# Altium integrated library Linear Technology Power Management LDO Linear Regulators.IntLib: 2339 symbols (part 32 of 131)
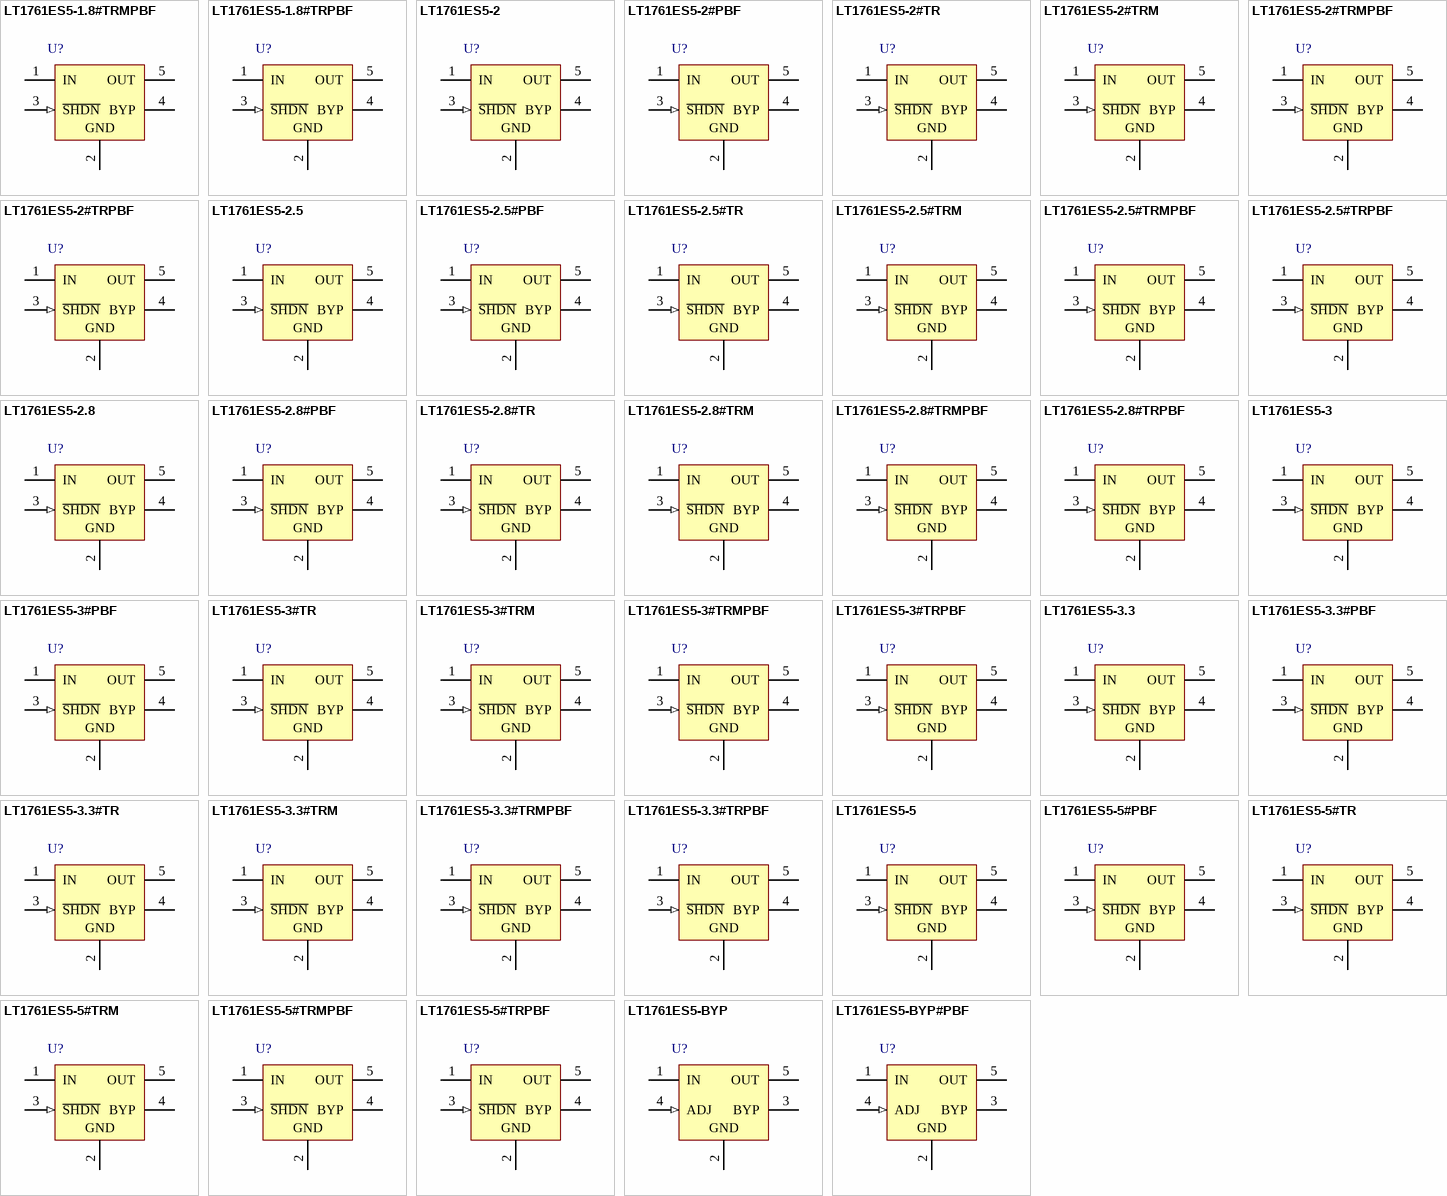
[diagram p100: symbols LT1761ES5-1.8#TRMPBF to LT1761ES5-BYP#PBF]

## LT1761ES5-BYP
designator U?
100 mA, Low Noise, LDO Micropower Regulator, 1.8 to 20 V Vin, Adjustable Vout, 5-pin SOT23 (S5-5), -40 to 125 degC; Manufacturer: Linear Technology; PartNumber: LT1761ES5-BYP; Discrete Pass Element: no; Dropout Voltage(V): 0.3; Iout(mA): 100; Isupply(mA): 0.02; Noise(uV): 20; Number of Outputs: 1; Output Voltage: Adj; PSRR(dB): 65; Vin Min(V): 1.8; Vout Min(V): 1.22; DatasheetVersion: Rev. F; PackageVersion: Jun-10; PackageReference: S5-5; PackageDescription: 5-Pin Plastic TSOT-23, Body 1.63 x 2.90 mm, Pitch 0.95 mm; RoHS: FALSE; Shutdown Current(uA): 1; Vin Max(V): 20; Vout Max(V): 20; Mounting Technology: Surface Mount; Code_JEDEC: MO-193; ComponentLink1Description: Manufacturer URL; ComponentLink1URL: http://www.linear.com/; ComponentLink2Description: Datasheet; ComponentLink2URL: http://cds.linear.com/docs/en/datasheet/1761sff.pdf; ComponentLink3Description: Package Specification; ComponentLink3URL: http://cds.linear.com/docs/en/packaging/SOT_5_05-08-1635.pdf
footprint LT-S5-5-TSOT-23_N (SOT23, 5-Leads, Body 2.90x1.63mm, Pitch 0.95mm, IPC Medium Density)
footprint LT-S5-5-TSOT-23_L (SOT23, 5-Leads, Body 2.90x1.63mm, Pitch 0.95mm, IPC High Density)
footprint LT-S5-5-TSOT-23_M (SOT23, 5-Leads, Body 2.90x1.63mm, Pitch 0.95mm, IPC Low Density)
pins: 1 IN (power) "Input. Power is supplied to the device through the IN pin. A bypass capacitor is required on this pin if the device is more than six inches away from the main input filter capacitor. In general, the output impedance of a (See Datasheet)", 2 GND (power) "Ground.", 3 BYP, 4 ADJ (in), 5 OUT (power)

## LT1761ES5-BYP#PBF
designator U?
100 mA, Low Noise, LDO Micropower Regulator, 1.8 to 20 V Vin, Adjustable Vout, 5-pin SOT23 (S5-5), -40 to 125 degC, Pb-Free; Manufacturer: Linear Technology; PartNumber: LT1761ES5-BYP#PBF; Discrete Pass Element: no; Dropout Voltage(V): 0.3; Iout(mA): 100; Isupply(mA): 0.02; Noise(uV): 20; Number of Outputs: 1; Output Voltage: Adj; PSRR(dB): 65; Vin Min(V): 1.8; Vout Min(V): 1.22; DatasheetVersion: Rev. F; PackageVersion: Jun-10; PackageReference: S5-5; PackageDescription: 5-Pin Plastic TSOT-23, Body 1.63 x 2.90 mm, Pitch 0.95 mm; Supplier 1: Farnell; Supplier Part Number 1: 1531488; Supplier 2: Newark; Supplier Part Number 2: 61M3352; RoHS: TRUE; Shutdown Current(uA): 1; Vin Max(V): 20; Vout Max(V): 20; Mounting Technology: Surface Mount; Code_JEDEC: MO-193; ComponentLink1Description: Manufacturer URL; ComponentLink1URL: http://www.linear.com/; ComponentLink2Description: Datasheet; ComponentLink2URL: http://cds.linear.com/docs/en/datasheet/1761sff.pdf; ComponentLink3Description: Package Specification; ComponentLink3URL: http://cds.linear.com/docs/en/packaging/SOT_5_05-08-1635.pdf
footprint LT-S5-5-TSOT-23_N (SOT23, 5-Leads, Body 2.90x1.63mm, Pitch 0.95mm, IPC Medium Density)
footprint LT-S5-5-TSOT-23_L (SOT23, 5-Leads, Body 2.90x1.63mm, Pitch 0.95mm, IPC High Density)
footprint LT-S5-5-TSOT-23_M (SOT23, 5-Leads, Body 2.90x1.63mm, Pitch 0.95mm, IPC Low Density)
pins: 1 IN (power) "Input. Power is supplied to the device through the IN pin. A bypass capacitor is required on this pin if the device is more than six inches away from the main input filter capacitor. In general, the output impedance of a (See Datasheet)", 2 GND (power) "Ground.", 3 BYP, 4 ADJ (in), 5 OUT (power)

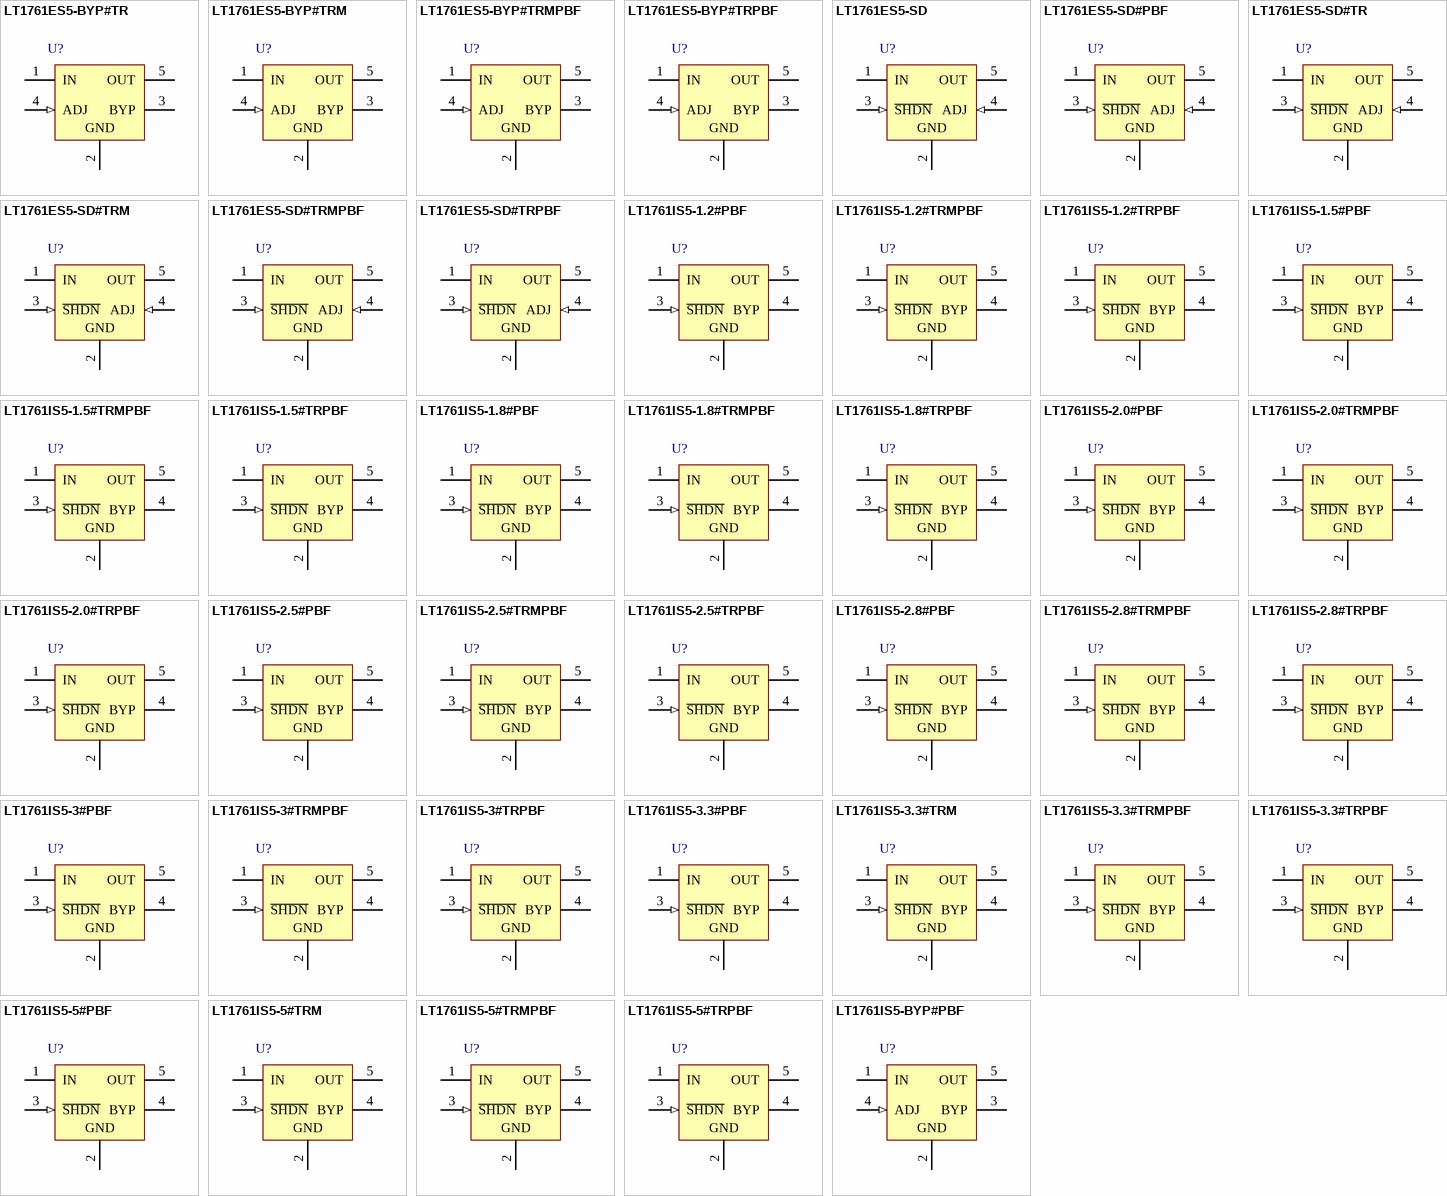
[diagram p22: symbols LT1761ES5-BYP#TR to LT1761IS5-BYP#PBF]

## LT1761ES5-BYP#TR
designator U?
100 mA, Low Noise, LDO Micropower Regulator, 1.8 to 20 V Vin, Adjustable Vout, 5-pin SOT23 (S5-5), -40 to 125 degC, Tape and Reel; Manufacturer: Linear Technology; PartNumber: LT1761ES5-BYP#TR; Discrete Pass Element: no; Dropout Voltage(V): 0.3; Iout(mA): 100; Isupply(mA): 0.02; Noise(uV): 20; Number of Outputs: 1; Output Voltage: Adj; PSRR(dB): 65; Vin Min(V): 1.8; Vout Min(V): 1.22; DatasheetVersion: Rev. F; PackageVersion: Jun-10; PackageReference: S5-5; PackageDescription: 5-Pin Plastic TSOT-23, Body 1.63 x 2.90 mm, Pitch 0.95 mm; Supplier 1: Digi-Key; Supplier Part Number 1: LT1761ES5-BYP#TR-ND; Supplier 2: Newark; Supplier Part Number 2: 57M5950; Packing: Tape and Reel; RoHS: FALSE; Shutdown Current(uA): 1; Vin Max(V): 20; Vout Max(V): 20; Mounting Technology: Surface Mount; Code_JEDEC: MO-193; ComponentLink1Description: Manufacturer URL; ComponentLink1URL: http://www.linear.com/; ComponentLink2Description: Datasheet; ComponentLink2URL: http://cds.linear.com/docs/en/datasheet/1761sff.pdf; ComponentLink3Description: Package Specification; ComponentLink3URL: http://cds.linear.com/docs/en/packaging/SOT_5_05-08-1635.pdf
footprint LT-S5-5-TSOT-23_N (SOT23, 5-Leads, Body 2.90x1.63mm, Pitch 0.95mm, IPC Medium Density)
footprint LT-S5-5-TSOT-23_L (SOT23, 5-Leads, Body 2.90x1.63mm, Pitch 0.95mm, IPC High Density)
footprint LT-S5-5-TSOT-23_M (SOT23, 5-Leads, Body 2.90x1.63mm, Pitch 0.95mm, IPC Low Density)
pins: 1 IN (power) "Input. Power is supplied to the device through the IN pin. A bypass capacitor is required on this pin if the device is more than six inches away from the main input filter capacitor. In general, the output impedance of a (See Datasheet)", 2 GND (power) "Ground.", 3 BYP, 4 ADJ (in), 5 OUT (power)

## LT1761ES5-BYP#TRM
designator U?
100 mA, Low Noise, LDO Micropower Regulator, 1.8 to 20 V Vin, Adjustable Vout, 5-pin SOT23 (S5-5), -40 to 125 degC, Mini Tape and Reel; Manufacturer: Linear Technology; PartNumber: LT1761ES5-BYP#TRM; Discrete Pass Element: no; Dropout Voltage(V): 0.3; Iout(mA): 100; Isupply(mA): 0.02; Noise(uV): 20; Number of Outputs: 1; Output Voltage: Adj; PSRR(dB): 65; Vin Min(V): 1.8; Vout Min(V): 1.22; DatasheetVersion: Rev. F; PackageVersion: Jun-10; PackageReference: S5-5; PackageDescription: 5-Pin Plastic TSOT-23, Body 1.63 x 2.90 mm, Pitch 0.95 mm; Supplier 1: Digi-Key; Supplier Part Number 1: LT1761ES5-BYP#TRMTR-ND; Supplier 2: Digi-Key; Supplier Part Number 2: LT1761ES5-BYP#TRMCT-ND; Supplier 3: Digi-Key; Supplier Part Number 3: LT1761ES5-BYP#TRMDKR-ND; Supplier 4: Newark; Supplier Part Number 4: 57M5951; Packing: Mini Tape and Reel; RoHS: FALSE; Shutdown Current(uA): 1; Vin Max(V): 20; Vout Max(V): 20; Mounting Technology: Surface Mount; Code_JEDEC: MO-193; ComponentLink1Description: Manufacturer URL; ComponentLink1URL: http://www.linear.com/; ComponentLink2Description: Datasheet; ComponentLink2URL: http://cds.linear.com/docs/en/datasheet/1761sff.pdf; ComponentLink3Description: Package Specification; ComponentLink3URL: http://cds.linear.com/docs/en/packaging/SOT_5_05-08-1635.pdf
footprint LT-S5-5-TSOT-23_N (SOT23, 5-Leads, Body 2.90x1.63mm, Pitch 0.95mm, IPC Medium Density)
footprint LT-S5-5-TSOT-23_L (SOT23, 5-Leads, Body 2.90x1.63mm, Pitch 0.95mm, IPC High Density)
footprint LT-S5-5-TSOT-23_M (SOT23, 5-Leads, Body 2.90x1.63mm, Pitch 0.95mm, IPC Low Density)
pins: 1 IN (power) "Input. Power is supplied to the device through the IN pin. A bypass capacitor is required on this pin if the device is more than six inches away from the main input filter capacitor. In general, the output impedance of a (See Datasheet)", 2 GND (power) "Ground.", 3 BYP, 4 ADJ (in), 5 OUT (power)

## LT1761ES5-BYP#TRMPBF
designator U?
100 mA, Low Noise, LDO Micropower Regulator, 1.8 to 20 V Vin, Adjustable Vout, 5-pin SOT23 (S5-5), -40 to 125 degC, Pb-Free, Mini Tape and Reel; Manufacturer: Linear Technology; PartNumber: LT1761ES5-BYP#TRMPBF; Discrete Pass Element: no; Dropout Voltage(V): 0.3; Iout(mA): 100; Isupply(mA): 0.02; Noise(uV): 20; Number of Outputs: 1; Output Voltage: Adj; PSRR(dB): 65; Vin Min(V): 1.8; Vout Min(V): 1.22; DatasheetVersion: Rev. F; PackageVersion: Jun-10; PackageReference: S5-5; PackageDescription: 5-Pin Plastic TSOT-23, Body 1.63 x 2.90 mm, Pitch 0.95 mm; Supplier 1: Digi-Key; Supplier Part Number 1: LT1761ES5-BYP#TRMPBFTR-ND; Supplier 2: Digi-Key; Supplier Part Number 2: LT1761ES5-BYP#TRMPBFCT-ND; Supplier 3: Digi-Key; Supplier Part Number 3: LT1761ES5-BYP#TRMPBFDKR-ND; Supplier 4: Farnell; Supplier Part Number 4: 1663782; Supplier 5: Farnell; Supplier Part Number 5: 1663782RL; Supplier 6: Newark; Supplier Part Number 6: 59M8293; Supplier 7: Newark; Supplier Part Number 7: 57M5952; Packing: Mini Tape and Reel; RoHS: TRUE; Shutdown Current(uA): 1; Vin Max(V): 20; Vout Max(V): 20; Mounting Technology: Surface Mount; Code_JEDEC: MO-193; ComponentLink1Description: Manufacturer URL; ComponentLink1URL: http://www.linear.com/; ComponentLink2Description: Datasheet; ComponentLink2URL: http://cds.linear.com/docs/en/datasheet/1761sff.pdf; ComponentLink3Description: Package Specification; ComponentLink3URL: http://cds.linear.com/docs/en/packaging/SOT_5_05-08-1635.pdf
footprint LT-S5-5-TSOT-23_N (SOT23, 5-Leads, Body 2.90x1.63mm, Pitch 0.95mm, IPC Medium Density)
footprint LT-S5-5-TSOT-23_L (SOT23, 5-Leads, Body 2.90x1.63mm, Pitch 0.95mm, IPC High Density)
footprint LT-S5-5-TSOT-23_M (SOT23, 5-Leads, Body 2.90x1.63mm, Pitch 0.95mm, IPC Low Density)
pins: 1 IN (power) "Input. Power is supplied to the device through the IN pin. A bypass capacitor is required on this pin if the device is more than six inches away from the main input filter capacitor. In general, the output impedance of a (See Datasheet)", 2 GND (power) "Ground.", 3 BYP, 4 ADJ (in), 5 OUT (power)

## LT1761ES5-BYP#TRPBF
designator U?
100 mA, Low Noise, LDO Micropower Regulator, 1.8 to 20 V Vin, Adjustable Vout, 5-pin SOT23 (S5-5), -40 to 125 degC, Pb-Free, Tape and Reel; Manufacturer: Linear Technology; PartNumber: LT1761ES5-BYP#TRPBF; Discrete Pass Element: no; Dropout Voltage(V): 0.3; Iout(mA): 100; Isupply(mA): 0.02; Noise(uV): 20; Number of Outputs: 1; Output Voltage: Adj; PSRR(dB): 65; Vin Min(V): 1.8; Vout Min(V): 1.22; DatasheetVersion: Rev. F; PackageVersion: Jun-10; PackageReference: S5-5; PackageDescription: 5-Pin Plastic TSOT-23, Body 1.63 x 2.90 mm, Pitch 0.95 mm; Supplier 1: Digi-Key; Supplier Part Number 1: LT1761ES5-BYP#TRPBF-ND; Supplier 2: Newark; Supplier Part Number 2: 57M5953; Packing: Tape and Reel; RoHS: TRUE; Shutdown Current(uA): 1; Vin Max(V): 20; Vout Max(V): 20; Mounting Technology: Surface Mount; Code_JEDEC: MO-193; ComponentLink1Description: Manufacturer URL; ComponentLink1URL: http://www.linear.com/; ComponentLink2Description: Datasheet; ComponentLink2URL: http://cds.linear.com/docs/en/datasheet/1761sff.pdf; ComponentLink3Description: Package Specification; ComponentLink3URL: http://cds.linear.com/docs/en/packaging/SOT_5_05-08-1635.pdf
footprint LT-S5-5-TSOT-23_N (SOT23, 5-Leads, Body 2.90x1.63mm, Pitch 0.95mm, IPC Medium Density)
footprint LT-S5-5-TSOT-23_L (SOT23, 5-Leads, Body 2.90x1.63mm, Pitch 0.95mm, IPC High Density)
footprint LT-S5-5-TSOT-23_M (SOT23, 5-Leads, Body 2.90x1.63mm, Pitch 0.95mm, IPC Low Density)
pins: 1 IN (power) "Input. Power is supplied to the device through the IN pin. A bypass capacitor is required on this pin if the device is more than six inches away from the main input filter capacitor. In general, the output impedance of a (See Datasheet)", 2 GND (power) "Ground.", 3 BYP, 4 ADJ (in), 5 OUT (power)

## LT1761ES5-SD
designator U?
100 mA, Low Noise, LDO Micropower Regulator, 1.8 to 20 V Vin, Adjustable Vout, 5-pin SOT23 (S5-5), -40 to 125 degC; Manufacturer: Linear Technology; PartNumber: LT1761ES5-SD; Discrete Pass Element: no; Dropout Voltage(V): 0.3; Iout(mA): 100; Isupply(mA): 0.02; Noise(uV): 20; Number of Outputs: 1; Output Voltage: Adj; PSRR(dB): 65; Vin Min(V): 1.8; Vout Min(V): 1.22; DatasheetVersion: Rev. F; PackageVersion: Jun-10; PackageReference: S5-5; PackageDescription: 5-Pin Plastic TSOT-23, Body 1.63 x 2.90 mm, Pitch 0.95 mm; RoHS: FALSE; Shutdown Current(uA): 1; Vin Max(V): 20; Vout Max(V): 20; Mounting Technology: Surface Mount; Code_JEDEC: MO-193; ComponentLink1Description: Manufacturer URL; ComponentLink1URL: http://www.linear.com/; ComponentLink2Description: Datasheet; ComponentLink2URL: http://cds.linear.com/docs/en/datasheet/1761sff.pdf; ComponentLink3Description: Package Specification; ComponentLink3URL: http://cds.linear.com/docs/en/packaging/SOT_5_05-08-1635.pdf
footprint LT-S5-5-TSOT-23_N (SOT23, 5-Leads, Body 2.90x1.63mm, Pitch 0.95mm, IPC Medium Density)
footprint LT-S5-5-TSOT-23_L (SOT23, 5-Leads, Body 2.90x1.63mm, Pitch 0.95mm, IPC High Density)
footprint LT-S5-5-TSOT-23_M (SOT23, 5-Leads, Body 2.90x1.63mm, Pitch 0.95mm, IPC Low Density)
pins: 1 IN (power), 2 GND (power), 3 ~{SHDN} (in), 4 ADJ (in), 5 OUT (power)

## LT1761ES5-SD#PBF
designator U?
100 mA, Low Noise, LDO Micropower Regulator, 1.8 to 20 V Vin, Adjustable Vout, 5-pin SOT23 (S5-5), -40 to 125 degC, Pb-Free; Manufacturer: Linear Technology; PartNumber: LT1761ES5-SD#PBF; Discrete Pass Element: no; Dropout Voltage(V): 0.3; Iout(mA): 100; Isupply(mA): 0.02; Noise(uV): 20; Number of Outputs: 1; Output Voltage: Adj; PSRR(dB): 65; Vin Min(V): 1.8; Vout Min(V): 1.22; DatasheetVersion: Rev. F; PackageVersion: Jun-10; PackageReference: S5-5; PackageDescription: 5-Pin Plastic TSOT-23, Body 1.63 x 2.90 mm, Pitch 0.95 mm; Supplier 1: Farnell; Supplier Part Number 1: 1531489; Supplier 2: Newark; Supplier Part Number 2: 61M3353; RoHS: TRUE; Shutdown Current(uA): 1; Vin Max(V): 20; Vout Max(V): 20; Mounting Technology: Surface Mount; Code_JEDEC: MO-193; ComponentLink1Description: Manufacturer URL; ComponentLink1URL: http://www.linear.com/; ComponentLink2Description: Datasheet; ComponentLink2URL: http://cds.linear.com/docs/en/datasheet/1761sff.pdf; ComponentLink3Description: Package Specification; ComponentLink3URL: http://cds.linear.com/docs/en/packaging/SOT_5_05-08-1635.pdf
footprint LT-S5-5-TSOT-23_N (SOT23, 5-Leads, Body 2.90x1.63mm, Pitch 0.95mm, IPC Medium Density)
footprint LT-S5-5-TSOT-23_L (SOT23, 5-Leads, Body 2.90x1.63mm, Pitch 0.95mm, IPC High Density)
footprint LT-S5-5-TSOT-23_M (SOT23, 5-Leads, Body 2.90x1.63mm, Pitch 0.95mm, IPC Low Density)
pins: 1 IN (power), 2 GND (power), 3 ~{SHDN} (in), 4 ADJ (in), 5 OUT (power)

## LT1761ES5-SD#TR
designator U?
100 mA, Low Noise, LDO Micropower Regulator, 1.8 to 20 V Vin, Adjustable Vout, 5-pin SOT23 (S5-5), -40 to 125 degC, Tape and Reel; Manufacturer: Linear Technology; PartNumber: LT1761ES5-SD#TR; Discrete Pass Element: no; Dropout Voltage(V): 0.3; Iout(mA): 100; Isupply(mA): 0.02; Noise(uV): 20; Number of Outputs: 1; Output Voltage: Adj; PSRR(dB): 65; Vin Min(V): 1.8; Vout Min(V): 1.22; DatasheetVersion: Rev. F; PackageVersion: Jun-10; PackageReference: S5-5; PackageDescription: 5-Pin Plastic TSOT-23, Body 1.63 x 2.90 mm, Pitch 0.95 mm; Supplier 1: Digi-Key; Supplier Part Number 1: LT1761ES5-SD#TR-ND; Packing: Tape and Reel; RoHS: FALSE; Shutdown Current(uA): 1; Vin Max(V): 20; Vout Max(V): 20; Mounting Technology: Surface Mount; Code_JEDEC: MO-193; ComponentLink1Description: Manufacturer URL; ComponentLink1URL: http://www.linear.com/; ComponentLink2Description: Datasheet; ComponentLink2URL: http://cds.linear.com/docs/en/datasheet/1761sff.pdf; ComponentLink3Description: Package Specification; ComponentLink3URL: http://cds.linear.com/docs/en/packaging/SOT_5_05-08-1635.pdf
footprint LT-S5-5-TSOT-23_N (SOT23, 5-Leads, Body 2.90x1.63mm, Pitch 0.95mm, IPC Medium Density)
footprint LT-S5-5-TSOT-23_L (SOT23, 5-Leads, Body 2.90x1.63mm, Pitch 0.95mm, IPC High Density)
footprint LT-S5-5-TSOT-23_M (SOT23, 5-Leads, Body 2.90x1.63mm, Pitch 0.95mm, IPC Low Density)
pins: 1 IN (power), 2 GND (power), 3 ~{SHDN} (in), 4 ADJ (in), 5 OUT (power)

## LT1761ES5-SD#TRM
designator U?
100 mA, Low Noise, LDO Micropower Regulator, 1.8 to 20 V Vin, Adjustable Vout, 5-pin SOT23 (S5-5), -40 to 125 degC, Mini Tape and Reel; Manufacturer: Linear Technology; PartNumber: LT1761ES5-SD#TRM; Discrete Pass Element: no; Dropout Voltage(V): 0.3; Iout(mA): 100; Isupply(mA): 0.02; Noise(uV): 20; Number of Outputs: 1; Output Voltage: Adj; PSRR(dB): 65; Vin Min(V): 1.8; Vout Min(V): 1.22; DatasheetVersion: Rev. F; PackageVersion: Jun-10; PackageReference: S5-5; PackageDescription: 5-Pin Plastic TSOT-23, Body 1.63 x 2.90 mm, Pitch 0.95 mm; Supplier 1: Digi-Key; Supplier Part Number 1: LT1761ES5-SD#TRMTR-ND; Supplier 2: Digi-Key; Supplier Part Number 2: LT1761ES5-SD#TRMCT-ND; Supplier 3: Digi-Key; Supplier Part Number 3: LT1761ES5-SD#TRMDKR-ND; Supplier 4: Newark; Supplier Part Number 4: 57M5955; Packing: Mini Tape and Reel; RoHS: FALSE; Shutdown Current(uA): 1; Vin Max(V): 20; Vout Max(V): 20; Mounting Technology: Surface Mount; Code_JEDEC: MO-193; ComponentLink1Description: Manufacturer URL; ComponentLink1URL: http://www.linear.com/; ComponentLink2Description: Datasheet; ComponentLink2URL: http://cds.linear.com/docs/en/datasheet/1761sff.pdf; ComponentLink3Description: Package Specification; ComponentLink3URL: http://cds.linear.com/docs/en/packaging/SOT_5_05-08-1635.pdf
footprint LT-S5-5-TSOT-23_N (SOT23, 5-Leads, Body 2.90x1.63mm, Pitch 0.95mm, IPC Medium Density)
footprint LT-S5-5-TSOT-23_L (SOT23, 5-Leads, Body 2.90x1.63mm, Pitch 0.95mm, IPC High Density)
footprint LT-S5-5-TSOT-23_M (SOT23, 5-Leads, Body 2.90x1.63mm, Pitch 0.95mm, IPC Low Density)
pins: 1 IN (power), 2 GND (power), 3 ~{SHDN} (in), 4 ADJ (in), 5 OUT (power)

## LT1761ES5-SD#TRMPBF
designator U?
100 mA, Low Noise, LDO Micropower Regulator, 1.8 to 20 V Vin, Adjustable Vout, 5-pin SOT23 (S5-5), -40 to 125 degC, Pb-Free, Mini Tape and Reel; Manufacturer: Linear Technology; PartNumber: LT1761ES5-SD#TRMPBF; Discrete Pass Element: no; Dropout Voltage(V): 0.3; Iout(mA): 100; Isupply(mA): 0.02; Noise(uV): 20; Number of Outputs: 1; Output Voltage: Adj; PSRR(dB): 65; Vin Min(V): 1.8; Vout Min(V): 1.22; DatasheetVersion: Rev. F; PackageVersion: Jun-10; PackageReference: S5-5; PackageDescription: 5-Pin Plastic TSOT-23, Body 1.63 x 2.90 mm, Pitch 0.95 mm; Supplier 1: Digi-Key; Supplier Part Number 1: LT1761ES5-SD#TRMPBFTR-ND; Supplier 2: Digi-Key; Supplier Part Number 2: LT1761ES5-SD#TRMPBFCT-ND; Supplier 3: Digi-Key; Supplier Part Number 3: LT1761ES5-SD#TRMPBFDKR-ND; Supplier 4: Farnell; Supplier Part Number 4: 1663783RL; Supplier 5: Farnell; Supplier Part Number 5: 1663783; Supplier 6: Newark; Supplier Part Number 6: 57M5956; Packing: Mini Tape and Reel; RoHS: TRUE; Shutdown Current(uA): 1; Vin Max(V): 20; Vout Max(V): 20; Mounting Technology: Surface Mount; Code_JEDEC: MO-193; ComponentLink1Description: Manufacturer URL; ComponentLink1URL: http://www.linear.com/; ComponentLink2Description: Datasheet; ComponentLink2URL: http://cds.linear.com/docs/en/datasheet/1761sff.pdf; ComponentLink3Description: Package Specification; ComponentLink3URL: http://cds.linear.com/docs/en/packaging/SOT_5_05-08-1635.pdf
footprint LT-S5-5-TSOT-23_N (SOT23, 5-Leads, Body 2.90x1.63mm, Pitch 0.95mm, IPC Medium Density)
footprint LT-S5-5-TSOT-23_L (SOT23, 5-Leads, Body 2.90x1.63mm, Pitch 0.95mm, IPC High Density)
footprint LT-S5-5-TSOT-23_M (SOT23, 5-Leads, Body 2.90x1.63mm, Pitch 0.95mm, IPC Low Density)
pins: 1 IN (power), 2 GND (power), 3 ~{SHDN} (in), 4 ADJ (in), 5 OUT (power)

## LT1761ES5-SD#TRPBF
designator U?
100 mA, Low Noise, LDO Micropower Regulator, 1.8 to 20 V Vin, Adjustable Vout, 5-pin SOT23 (S5-5), -40 to 125 degC, Pb-Free, Tape and Reel; Manufacturer: Linear Technology; PartNumber: LT1761ES5-SD#TRPBF; Discrete Pass Element: no; Dropout Voltage(V): 0.3; Iout(mA): 100; Isupply(mA): 0.02; Noise(uV): 20; Number of Outputs: 1; Output Voltage: Adj; PSRR(dB): 65; Vin Min(V): 1.8; Vout Min(V): 1.22; DatasheetVersion: Rev. F; PackageVersion: Jun-10; PackageReference: S5-5; PackageDescription: 5-Pin Plastic TSOT-23, Body 1.63 x 2.90 mm, Pitch 0.95 mm; Supplier 1: Digi-Key; Supplier Part Number 1: LT1761ES5-SD#TRPBF-ND; Supplier 2: Newark; Supplier Part Number 2: 57M5957; Packing: Tape and Reel; RoHS: TRUE; Shutdown Current(uA): 1; Vin Max(V): 20; Vout Max(V): 20; Mounting Technology: Surface Mount; Code_JEDEC: MO-193; ComponentLink1Description: Manufacturer URL; ComponentLink1URL: http://www.linear.com/; ComponentLink2Description: Datasheet; ComponentLink2URL: http://cds.linear.com/docs/en/datasheet/1761sff.pdf; ComponentLink3Description: Package Specification; ComponentLink3URL: http://cds.linear.com/docs/en/packaging/SOT_5_05-08-1635.pdf
footprint LT-S5-5-TSOT-23_N (SOT23, 5-Leads, Body 2.90x1.63mm, Pitch 0.95mm, IPC Medium Density)
footprint LT-S5-5-TSOT-23_L (SOT23, 5-Leads, Body 2.90x1.63mm, Pitch 0.95mm, IPC High Density)
footprint LT-S5-5-TSOT-23_M (SOT23, 5-Leads, Body 2.90x1.63mm, Pitch 0.95mm, IPC Low Density)
pins: 1 IN (power), 2 GND (power), 3 ~{SHDN} (in), 4 ADJ (in), 5 OUT (power)

## LT1761IS5-1.2#PBF
designator U?
100 mA, Low Noise, LDO Micropower Regulator, 1.8 to 20 V Vin, 1.2 V Vout, 5-pin SOT23 (S5-5), -40 to 125 degC, Pb-Free; Manufacturer: Linear Technology; PartNumber: LT1761IS5-1.2#PBF; Discrete Pass Element: no; Dropout Voltage(V): 0.3; Iout(mA): 100; Isupply(mA): 0.02; Noise(uV): 20; Number of Outputs: 1; Output Voltage: 1.2 V; PSRR(dB): 65; Vin Min(V): 1.8; DatasheetVersion: Rev. F; PackageVersion: Jun-10; PackageReference: S5-5; PackageDescription: 5-Pin Plastic TSOT-23, Body 1.63 x 2.90 mm, Pitch 0.95 mm; Supplier 1: Farnell; Supplier Part Number 1: 2295206; Supplier 2: Farnell; Supplier Part Number 2: 1761233; Supplier 3: Newark; Supplier Part Number 3: 24R8521; RoHS: TRUE; Shutdown Current(uA): 1; Vin Max(V): 20; Mounting Technology: Surface Mount; Code_JEDEC: MO-193; ComponentLink1Description: Manufacturer URL; ComponentLink1URL: http://www.linear.com/; ComponentLink2Description: Datasheet; ComponentLink2URL: http://cds.linear.com/docs/en/datasheet/1761sff.pdf; ComponentLink3Description: Package Specification; ComponentLink3URL: http://cds.linear.com/docs/en/packaging/SOT_5_05-08-1635.pdf
footprint LT-S5-5-TSOT-23_N (SOT23, 5-Leads, Body 2.90x1.63mm, Pitch 0.95mm, IPC Medium Density)
footprint LT-S5-5-TSOT-23_L (SOT23, 5-Leads, Body 2.90x1.63mm, Pitch 0.95mm, IPC High Density)
footprint LT-S5-5-TSOT-23_M (SOT23, 5-Leads, Body 2.90x1.63mm, Pitch 0.95mm, IPC Low Density)
pins: 1 IN (power) "Power is supplied to the device through the IN pin.", 2 GND (power) "Ground.", 3 ~{SHDN} (in) "Shutdown.", 4 BYP "Bypass. If not used, this pin must be left unconnected.", 5 OUT (power) "The output supplies power to the load. A minimum output capacitor of 1uF is required to prevent oscillations. Larger output capacitors will be required for applications with large transient loads to limit peak voltage (See Datasheet)"

## LT1761IS5-1.2#TRMPBF
designator U?
100 mA, Low Noise, LDO Micropower Regulator, 1.8 to 20 V Vin, 1.2 V Vout, 5-pin SOT23 (S5-5), -40 to 125 degC, Pb-Free, Mini Tape and Reel; Manufacturer: Linear Technology; PartNumber: LT1761IS5-1.2#TRMPBF; Discrete Pass Element: no; Dropout Voltage(V): 0.3; Iout(mA): 100; Isupply(mA): 0.02; Noise(uV): 20; Number of Outputs: 1; Output Voltage: 1.2 V; PSRR(dB): 65; Vin Min(V): 1.8; DatasheetVersion: Rev. F; PackageVersion: Jun-10; PackageReference: S5-5; PackageDescription: 5-Pin Plastic TSOT-23, Body 1.63 x 2.90 mm, Pitch 0.95 mm; Supplier 1: Digi-Key; Supplier Part Number 1: LT1761IS5-1.2#TRMPBFTR-ND; Supplier 2: Digi-Key; Supplier Part Number 2: LT1761IS5-1.2#TRMPBFCT-ND; Supplier 3: Digi-Key; Supplier Part Number 3: LT1761IS5-1.2#TRMPBFDKR-ND; Packing: Mini Tape and Reel; RoHS: TRUE; Shutdown Current(uA): 1; Vin Max(V): 20; Mounting Technology: Surface Mount; Code_JEDEC: MO-193; ComponentLink1Description: Manufacturer URL; ComponentLink1URL: http://www.linear.com/; ComponentLink2Description: Datasheet; ComponentLink2URL: http://cds.linear.com/docs/en/datasheet/1761sff.pdf; ComponentLink3Description: Package Specification; ComponentLink3URL: http://cds.linear.com/docs/en/packaging/SOT_5_05-08-1635.pdf
footprint LT-S5-5-TSOT-23_N (SOT23, 5-Leads, Body 2.90x1.63mm, Pitch 0.95mm, IPC Medium Density)
footprint LT-S5-5-TSOT-23_L (SOT23, 5-Leads, Body 2.90x1.63mm, Pitch 0.95mm, IPC High Density)
footprint LT-S5-5-TSOT-23_M (SOT23, 5-Leads, Body 2.90x1.63mm, Pitch 0.95mm, IPC Low Density)
pins: 1 IN (power) "Power is supplied to the device through the IN pin.", 2 GND (power) "Ground.", 3 ~{SHDN} (in) "Shutdown.", 4 BYP "Bypass. If not used, this pin must be left unconnected.", 5 OUT (power) "The output supplies power to the load. A minimum output capacitor of 1uF is required to prevent oscillations. Larger output capacitors will be required for applications with large transient loads to limit peak voltage (See Datasheet)"

## LT1761IS5-1.2#TRPBF
designator U?
100 mA, Low Noise, LDO Micropower Regulator, 1.8 to 20 V Vin, 1.2 V Vout, 5-pin SOT23 (S5-5), -40 to 125 degC, Pb-Free, Tape and Reel; Manufacturer: Linear Technology; PartNumber: LT1761IS5-1.2#TRPBF; Discrete Pass Element: no; Dropout Voltage(V): 0.3; Iout(mA): 100; Isupply(mA): 0.02; Noise(uV): 20; Number of Outputs: 1; Output Voltage: 1.2 V; PSRR(dB): 65; Vin Min(V): 1.8; DatasheetVersion: Rev. F; PackageVersion: Jun-10; PackageReference: S5-5; PackageDescription: 5-Pin Plastic TSOT-23, Body 1.63 x 2.90 mm, Pitch 0.95 mm; Supplier 1: Digi-Key; Supplier Part Number 1: LT1761IS5-1.2#TRPBF-ND; Packing: Tape and Reel; RoHS: TRUE; Shutdown Current(uA): 1; Vin Max(V): 20; Mounting Technology: Surface Mount; Code_JEDEC: MO-193; ComponentLink1Description: Manufacturer URL; ComponentLink1URL: http://www.linear.com/; ComponentLink2Description: Datasheet; ComponentLink2URL: http://cds.linear.com/docs/en/datasheet/1761sff.pdf; ComponentLink3Description: Package Specification; ComponentLink3URL: http://cds.linear.com/docs/en/packaging/SOT_5_05-08-1635.pdf
footprint LT-S5-5-TSOT-23_N (SOT23, 5-Leads, Body 2.90x1.63mm, Pitch 0.95mm, IPC Medium Density)
footprint LT-S5-5-TSOT-23_L (SOT23, 5-Leads, Body 2.90x1.63mm, Pitch 0.95mm, IPC High Density)
footprint LT-S5-5-TSOT-23_M (SOT23, 5-Leads, Body 2.90x1.63mm, Pitch 0.95mm, IPC Low Density)
pins: 1 IN (power) "Power is supplied to the device through the IN pin.", 2 GND (power) "Ground.", 3 ~{SHDN} (in) "Shutdown.", 4 BYP "Bypass. If not used, this pin must be left unconnected.", 5 OUT (power) "The output supplies power to the load. A minimum output capacitor of 1uF is required to prevent oscillations. Larger output capacitors will be required for applications with large transient loads to limit peak voltage (See Datasheet)"

## LT1761IS5-1.5#PBF
designator U?
100 mA, Low Noise, LDO Micropower Regulator, 1.8 to 20 V Vin, 1.5 V Vout, 5-pin SOT23 (S5-5), -40 to 125 degC, Pb-Free; Manufacturer: Linear Technology; PartNumber: LT1761IS5-1.5#PBF; Discrete Pass Element: no; Dropout Voltage(V): 0.3; Iout(mA): 100; Isupply(mA): 0.02; Noise(uV): 20; Number of Outputs: 1; Output Voltage: 1.5 V; PSRR(dB): 65; Vin Min(V): 1.8; DatasheetVersion: Rev. F; PackageVersion: Jun-10; PackageReference: S5-5; PackageDescription: 5-Pin Plastic TSOT-23, Body 1.63 x 2.90 mm, Pitch 0.95 mm; Supplier 1: Newark; Supplier Part Number 1: 24R8522; RoHS: TRUE; Shutdown Current(uA): 1; Vin Max(V): 20; Mounting Technology: Surface Mount; Code_JEDEC: MO-193; ComponentLink1Description: Manufacturer URL; ComponentLink1URL: http://www.linear.com/; ComponentLink2Description: Datasheet; ComponentLink2URL: http://cds.linear.com/docs/en/datasheet/1761sff.pdf; ComponentLink3Description: Package Specification; ComponentLink3URL: http://cds.linear.com/docs/en/packaging/SOT_5_05-08-1635.pdf
footprint LT-S5-5-TSOT-23_N (SOT23, 5-Leads, Body 2.90x1.63mm, Pitch 0.95mm, IPC Medium Density)
footprint LT-S5-5-TSOT-23_L (SOT23, 5-Leads, Body 2.90x1.63mm, Pitch 0.95mm, IPC High Density)
footprint LT-S5-5-TSOT-23_M (SOT23, 5-Leads, Body 2.90x1.63mm, Pitch 0.95mm, IPC Low Density)
pins: 1 IN (power) "Power is supplied to the device through the IN pin.", 2 GND (power) "Ground.", 3 ~{SHDN} (in) "Shutdown.", 4 BYP "Bypass. If not used, this pin must be left unconnected.", 5 OUT (power) "The output supplies power to the load. A minimum output capacitor of 1uF is required to prevent oscillations. Larger output capacitors will be required for applications with large transient loads to limit peak voltage (See Datasheet)"

## LT1761IS5-1.5#TRMPBF
designator U?
100 mA, Low Noise, LDO Micropower Regulator, 1.8 to 20 V Vin, 1.5 V Vout, 5-pin SOT23 (S5-5), -40 to 125 degC, Pb-Free, Mini Tape and Reel; Manufacturer: Linear Technology; PartNumber: LT1761IS5-1.5#TRMPBF; Discrete Pass Element: no; Dropout Voltage(V): 0.3; Iout(mA): 100; Isupply(mA): 0.02; Noise(uV): 20; Number of Outputs: 1; Output Voltage: 1.5 V; PSRR(dB): 65; Vin Min(V): 1.8; DatasheetVersion: Rev. F; PackageVersion: Jun-10; PackageReference: S5-5; PackageDescription: 5-Pin Plastic TSOT-23, Body 1.63 x 2.90 mm, Pitch 0.95 mm; Supplier 1: Digi-Key; Supplier Part Number 1: LT1761IS5-1.5#TRMPBFTR-ND; Supplier 2: Digi-Key; Supplier Part Number 2: LT1761IS5-1.5#TRMPBFCT-ND; Supplier 3: Digi-Key; Supplier Part Number 3: LT1761IS5-1.5#TRMPBFDKR-ND; Packing: Mini Tape and Reel; RoHS: TRUE; Shutdown Current(uA): 1; Vin Max(V): 20; Mounting Technology: Surface Mount; Code_JEDEC: MO-193; ComponentLink1Description: Manufacturer URL; ComponentLink1URL: http://www.linear.com/; ComponentLink2Description: Datasheet; ComponentLink2URL: http://cds.linear.com/docs/en/datasheet/1761sff.pdf; ComponentLink3Description: Package Specification; ComponentLink3URL: http://cds.linear.com/docs/en/packaging/SOT_5_05-08-1635.pdf
footprint LT-S5-5-TSOT-23_N (SOT23, 5-Leads, Body 2.90x1.63mm, Pitch 0.95mm, IPC Medium Density)
footprint LT-S5-5-TSOT-23_L (SOT23, 5-Leads, Body 2.90x1.63mm, Pitch 0.95mm, IPC High Density)
footprint LT-S5-5-TSOT-23_M (SOT23, 5-Leads, Body 2.90x1.63mm, Pitch 0.95mm, IPC Low Density)
pins: 1 IN (power) "Power is supplied to the device through the IN pin.", 2 GND (power) "Ground.", 3 ~{SHDN} (in) "Shutdown.", 4 BYP "Bypass. If not used, this pin must be left unconnected.", 5 OUT (power) "The output supplies power to the load. A minimum output capacitor of 1uF is required to prevent oscillations. Larger output capacitors will be required for applications with large transient loads to limit peak voltage (See Datasheet)"

## LT1761IS5-1.5#TRPBF
designator U?
100 mA, Low Noise, LDO Micropower Regulator, 1.8 to 20 V Vin, 1.5 V Vout, 5-pin SOT23 (S5-5), -40 to 125 degC, Pb-Free, Tape and Reel; Manufacturer: Linear Technology; PartNumber: LT1761IS5-1.5#TRPBF; Discrete Pass Element: no; Dropout Voltage(V): 0.3; Iout(mA): 100; Isupply(mA): 0.02; Noise(uV): 20; Number of Outputs: 1; Output Voltage: 1.5 V; PSRR(dB): 65; Vin Min(V): 1.8; DatasheetVersion: Rev. F; PackageVersion: Jun-10; PackageReference: S5-5; PackageDescription: 5-Pin Plastic TSOT-23, Body 1.63 x 2.90 mm, Pitch 0.95 mm; Supplier 1: Digi-Key; Supplier Part Number 1: LT1761IS5-1.5#TRPBF-ND; Packing: Tape and Reel; RoHS: TRUE; Shutdown Current(uA): 1; Vin Max(V): 20; Mounting Technology: Surface Mount; Code_JEDEC: MO-193; ComponentLink1Description: Manufacturer URL; ComponentLink1URL: http://www.linear.com/; ComponentLink2Description: Datasheet; ComponentLink2URL: http://cds.linear.com/docs/en/datasheet/1761sff.pdf; ComponentLink3Description: Package Specification; ComponentLink3URL: http://cds.linear.com/docs/en/packaging/SOT_5_05-08-1635.pdf
footprint LT-S5-5-TSOT-23_N (SOT23, 5-Leads, Body 2.90x1.63mm, Pitch 0.95mm, IPC Medium Density)
footprint LT-S5-5-TSOT-23_L (SOT23, 5-Leads, Body 2.90x1.63mm, Pitch 0.95mm, IPC High Density)
footprint LT-S5-5-TSOT-23_M (SOT23, 5-Leads, Body 2.90x1.63mm, Pitch 0.95mm, IPC Low Density)
pins: 1 IN (power) "Power is supplied to the device through the IN pin.", 2 GND (power) "Ground.", 3 ~{SHDN} (in) "Shutdown.", 4 BYP "Bypass. If not used, this pin must be left unconnected.", 5 OUT (power) "The output supplies power to the load. A minimum output capacitor of 1uF is required to prevent oscillations. Larger output capacitors will be required for applications with large transient loads to limit peak voltage (See Datasheet)"

## LT1761IS5-1.8#PBF
designator U?
100 mA, Low Noise, LDO Micropower Regulator, 1.8 to 20 V Vin, 1.8 V Vout, 5-pin SOT23 (S5-5), -40 to 125 degC, Pb-Free; Manufacturer: Linear Technology; PartNumber: LT1761IS5-1.8#PBF; Discrete Pass Element: no; Dropout Voltage(V): 0.3; Iout(mA): 100; Isupply(mA): 0.02; Noise(uV): 20; Number of Outputs: 1; Output Voltage: 1.8 V; PSRR(dB): 65; Vin Min(V): 1.8; DatasheetVersion: Rev. F; PackageVersion: Jun-10; PackageReference: S5-5; PackageDescription: 5-Pin Plastic TSOT-23, Body 1.63 x 2.90 mm, Pitch 0.95 mm; Supplier 1: Newark; Supplier Part Number 1: 24R8523; RoHS: TRUE; Shutdown Current(uA): 1; Vin Max(V): 20; Mounting Technology: Surface Mount; Code_JEDEC: MO-193; ComponentLink1Description: Manufacturer URL; ComponentLink1URL: http://www.linear.com/; ComponentLink2Description: Datasheet; ComponentLink2URL: http://cds.linear.com/docs/en/datasheet/1761sff.pdf; ComponentLink3Description: Package Specification; ComponentLink3URL: http://cds.linear.com/docs/en/packaging/SOT_5_05-08-1635.pdf
footprint LT-S5-5-TSOT-23_N (SOT23, 5-Leads, Body 2.90x1.63mm, Pitch 0.95mm, IPC Medium Density)
footprint LT-S5-5-TSOT-23_L (SOT23, 5-Leads, Body 2.90x1.63mm, Pitch 0.95mm, IPC High Density)
footprint LT-S5-5-TSOT-23_M (SOT23, 5-Leads, Body 2.90x1.63mm, Pitch 0.95mm, IPC Low Density)
pins: 1 IN (power) "Power is supplied to the device through the IN pin.", 2 GND (power) "Ground.", 3 ~{SHDN} (in) "Shutdown.", 4 BYP "Bypass. If not used, this pin must be left unconnected.", 5 OUT (power) "The output supplies power to the load. A minimum output capacitor of 1uF is required to prevent oscillations. Larger output capacitors will be required for applications with large transient loads to limit peak voltage (See Datasheet)"

## LT1761IS5-1.8#TRMPBF
designator U?
100 mA, Low Noise, LDO Micropower Regulator, 1.8 to 20 V Vin, 1.8 V Vout, 5-pin SOT23 (S5-5), -40 to 125 degC, Pb-Free, Mini Tape and Reel; Manufacturer: Linear Technology; PartNumber: LT1761IS5-1.8#TRMPBF; Discrete Pass Element: no; Dropout Voltage(V): 0.3; Iout(mA): 100; Isupply(mA): 0.02; Noise(uV): 20; Number of Outputs: 1; Output Voltage: 1.8 V; PSRR(dB): 65; Vin Min(V): 1.8; DatasheetVersion: Rev. F; PackageVersion: Jun-10; PackageReference: S5-5; PackageDescription: 5-Pin Plastic TSOT-23, Body 1.63 x 2.90 mm, Pitch 0.95 mm; Supplier 1: Digi-Key; Supplier Part Number 1: LT1761IS5-1.8#TRMPBFTR-ND; Supplier 2: Digi-Key; Supplier Part Number 2: LT1761IS5-1.8#TRMPBFCT-ND; Supplier 3: Digi-Key; Supplier Part Number 3: LT1761IS5-1.8#TRMPBFDKR-ND; Supplier 4: Newark; Supplier Part Number 4: 24R3340; Packing: Mini Tape and Reel; RoHS: TRUE; Shutdown Current(uA): 1; Vin Max(V): 20; Mounting Technology: Surface Mount; Code_JEDEC: MO-193; ComponentLink1Description: Manufacturer URL; ComponentLink1URL: http://www.linear.com/; ComponentLink2Description: Datasheet; ComponentLink2URL: http://cds.linear.com/docs/en/datasheet/1761sff.pdf; ComponentLink3Description: Package Specification; ComponentLink3URL: http://cds.linear.com/docs/en/packaging/SOT_5_05-08-1635.pdf
footprint LT-S5-5-TSOT-23_N (SOT23, 5-Leads, Body 2.90x1.63mm, Pitch 0.95mm, IPC Medium Density)
footprint LT-S5-5-TSOT-23_L (SOT23, 5-Leads, Body 2.90x1.63mm, Pitch 0.95mm, IPC High Density)
footprint LT-S5-5-TSOT-23_M (SOT23, 5-Leads, Body 2.90x1.63mm, Pitch 0.95mm, IPC Low Density)
pins: 1 IN (power) "Power is supplied to the device through the IN pin.", 2 GND (power) "Ground.", 3 ~{SHDN} (in) "Shutdown.", 4 BYP "Bypass. If not used, this pin must be left unconnected.", 5 OUT (power) "The output supplies power to the load. A minimum output capacitor of 1uF is required to prevent oscillations. Larger output capacitors will be required for applications with large transient loads to limit peak voltage (See Datasheet)"

## LT1761IS5-1.8#TRPBF
designator U?
100 mA, Low Noise, LDO Micropower Regulator, 1.8 to 20 V Vin, 1.8 V Vout, 5-pin SOT23 (S5-5), -40 to 125 degC, Pb-Free, Tape and Reel; Manufacturer: Linear Technology; PartNumber: LT1761IS5-1.8#TRPBF; Discrete Pass Element: no; Dropout Voltage(V): 0.3; Iout(mA): 100; Isupply(mA): 0.02; Noise(uV): 20; Number of Outputs: 1; Output Voltage: 1.8 V; PSRR(dB): 65; Vin Min(V): 1.8; DatasheetVersion: Rev. F; PackageVersion: Jun-10; PackageReference: S5-5; PackageDescription: 5-Pin Plastic TSOT-23, Body 1.63 x 2.90 mm, Pitch 0.95 mm; Supplier 1: Digi-Key; Supplier Part Number 1: LT1761IS5-1.8#TRPBF-ND; Packing: Tape and Reel; RoHS: TRUE; Shutdown Current(uA): 1; Vin Max(V): 20; Mounting Technology: Surface Mount; Code_JEDEC: MO-193; ComponentLink1Description: Manufacturer URL; ComponentLink1URL: http://www.linear.com/; ComponentLink2Description: Datasheet; ComponentLink2URL: http://cds.linear.com/docs/en/datasheet/1761sff.pdf; ComponentLink3Description: Package Specification; ComponentLink3URL: http://cds.linear.com/docs/en/packaging/SOT_5_05-08-1635.pdf
footprint LT-S5-5-TSOT-23_N (SOT23, 5-Leads, Body 2.90x1.63mm, Pitch 0.95mm, IPC Medium Density)
footprint LT-S5-5-TSOT-23_L (SOT23, 5-Leads, Body 2.90x1.63mm, Pitch 0.95mm, IPC High Density)
footprint LT-S5-5-TSOT-23_M (SOT23, 5-Leads, Body 2.90x1.63mm, Pitch 0.95mm, IPC Low Density)
pins: 1 IN (power) "Power is supplied to the device through the IN pin.", 2 GND (power) "Ground.", 3 ~{SHDN} (in) "Shutdown.", 4 BYP "Bypass. If not used, this pin must be left unconnected.", 5 OUT (power) "The output supplies power to the load. A minimum output capacitor of 1uF is required to prevent oscillations. Larger output capacitors will be required for applications with large transient loads to limit peak voltage (See Datasheet)"

## LT1761IS5-2.0#PBF
designator U?
100 mA, Low Noise, LDO Micropower Regulator, 1.8 to 20 V Vin, 2 V Vout, 5-pin SOT23 (S5-5), -40 to 125 degC, Pb-Free; Manufacturer: Linear Technology; PartNumber: LT1761IS5-2.0#PBF; Discrete Pass Element: no; Dropout Voltage(V): 0.3; Iout(mA): 100; Isupply(mA): 0.02; Noise(uV): 20; Number of Outputs: 1; Output Voltage: 2 V; PSRR(dB): 65; Vin Min(V): 1.8; DatasheetVersion: Rev. F; PackageVersion: Jun-10; PackageReference: S5-5; PackageDescription: 5-Pin Plastic TSOT-23, Body 1.63 x 2.90 mm, Pitch 0.95 mm; Supplier 1: Farnell; Supplier Part Number 1: 1761440; Supplier 2: Newark; Supplier Part Number 2: 24R8524; RoHS: TRUE; Shutdown Current(uA): 1; Vin Max(V): 20; Mounting Technology: Surface Mount; Code_JEDEC: MO-193; ComponentLink1Description: Manufacturer URL; ComponentLink1URL: http://www.linear.com/; ComponentLink2Description: Datasheet; ComponentLink2URL: http://cds.linear.com/docs/en/datasheet/1761sff.pdf; ComponentLink3Description: Package Specification; ComponentLink3URL: http://cds.linear.com/docs/en/packaging/SOT_5_05-08-1635.pdf
footprint LT-S5-5-TSOT-23_N (SOT23, 5-Leads, Body 2.90x1.63mm, Pitch 0.95mm, IPC Medium Density)
footprint LT-S5-5-TSOT-23_L (SOT23, 5-Leads, Body 2.90x1.63mm, Pitch 0.95mm, IPC High Density)
footprint LT-S5-5-TSOT-23_M (SOT23, 5-Leads, Body 2.90x1.63mm, Pitch 0.95mm, IPC Low Density)
pins: 1 IN (power) "Power is supplied to the device through the IN pin.", 2 GND (power) "Ground.", 3 ~{SHDN} (in) "Shutdown.", 4 BYP "Bypass. If not used, this pin must be left unconnected.", 5 OUT (power) "The output supplies power to the load. A minimum output capacitor of 1uF is required to prevent oscillations. Larger output capacitors will be required for applications with large transient loads to limit peak voltage (See Datasheet)"

## LT1761IS5-2.0#TRMPBF
designator U?
100 mA, Low Noise, LDO Micropower Regulator, 1.8 to 20 V Vin, 2 V Vout, 5-pin SOT23 (S5-5), -40 to 125 degC, Pb-Free, Mini Tape and Reel; Manufacturer: Linear Technology; PartNumber: LT1761IS5-2.0#TRMPBF; Discrete Pass Element: no; Dropout Voltage(V): 0.3; Iout(mA): 100; Isupply(mA): 0.02; Noise(uV): 20; Number of Outputs: 1; Output Voltage: 2 V; PSRR(dB): 65; Vin Min(V): 1.8; DatasheetVersion: Rev. F; PackageVersion: Jun-10; PackageReference: S5-5; PackageDescription: 5-Pin Plastic TSOT-23, Body 1.63 x 2.90 mm, Pitch 0.95 mm; Supplier 1: Digi-Key; Supplier Part Number 1: LT1761IS5-2.0#TRMPBFTR-ND; Supplier 2: Digi-Key; Supplier Part Number 2: LT1761IS5-2.0#TRMPBFCT-ND; Supplier 3: Digi-Key; Supplier Part Number 3: LT1761IS5-2.0#TRMPBFDKR-ND; Packing: Mini Tape and Reel; RoHS: TRUE; Shutdown Current(uA): 1; Vin Max(V): 20; Mounting Technology: Surface Mount; Code_JEDEC: MO-193; ComponentLink1Description: Manufacturer URL; ComponentLink1URL: http://www.linear.com/; ComponentLink2Description: Datasheet; ComponentLink2URL: http://cds.linear.com/docs/en/datasheet/1761sff.pdf; ComponentLink3Description: Package Specification; ComponentLink3URL: http://cds.linear.com/docs/en/packaging/SOT_5_05-08-1635.pdf
footprint LT-S5-5-TSOT-23_N (SOT23, 5-Leads, Body 2.90x1.63mm, Pitch 0.95mm, IPC Medium Density)
footprint LT-S5-5-TSOT-23_L (SOT23, 5-Leads, Body 2.90x1.63mm, Pitch 0.95mm, IPC High Density)
footprint LT-S5-5-TSOT-23_M (SOT23, 5-Leads, Body 2.90x1.63mm, Pitch 0.95mm, IPC Low Density)
pins: 1 IN (power) "Power is supplied to the device through the IN pin.", 2 GND (power) "Ground.", 3 ~{SHDN} (in) "Shutdown.", 4 BYP "Bypass. If not used, this pin must be left unconnected.", 5 OUT (power) "The output supplies power to the load. A minimum output capacitor of 1uF is required to prevent oscillations. Larger output capacitors will be required for applications with large transient loads to limit peak voltage (See Datasheet)"

## LT1761IS5-2.0#TRPBF
designator U?
100 mA, Low Noise, LDO Micropower Regulator, 1.8 to 20 V Vin, 2 V Vout, 5-pin SOT23 (S5-5), -40 to 125 degC, Pb-Free, Tape and Reel; Manufacturer: Linear Technology; PartNumber: LT1761IS5-2.0#TRPBF; Discrete Pass Element: no; Dropout Voltage(V): 0.3; Iout(mA): 100; Isupply(mA): 0.02; Noise(uV): 20; Number of Outputs: 1; Output Voltage: 2 V; PSRR(dB): 65; Vin Min(V): 1.8; DatasheetVersion: Rev. F; PackageVersion: Jun-10; PackageReference: S5-5; PackageDescription: 5-Pin Plastic TSOT-23, Body 1.63 x 2.90 mm, Pitch 0.95 mm; Supplier 1: Digi-Key; Supplier Part Number 1: LT1761IS5-2.0#TRPBF-ND; Packing: Tape and Reel; RoHS: TRUE; Shutdown Current(uA): 1; Vin Max(V): 20; Mounting Technology: Surface Mount; Code_JEDEC: MO-193; ComponentLink1Description: Manufacturer URL; ComponentLink1URL: http://www.linear.com/; ComponentLink2Description: Datasheet; ComponentLink2URL: http://cds.linear.com/docs/en/datasheet/1761sff.pdf; ComponentLink3Description: Package Specification; ComponentLink3URL: http://cds.linear.com/docs/en/packaging/SOT_5_05-08-1635.pdf
footprint LT-S5-5-TSOT-23_N (SOT23, 5-Leads, Body 2.90x1.63mm, Pitch 0.95mm, IPC Medium Density)
footprint LT-S5-5-TSOT-23_L (SOT23, 5-Leads, Body 2.90x1.63mm, Pitch 0.95mm, IPC High Density)
footprint LT-S5-5-TSOT-23_M (SOT23, 5-Leads, Body 2.90x1.63mm, Pitch 0.95mm, IPC Low Density)
pins: 1 IN (power) "Power is supplied to the device through the IN pin.", 2 GND (power) "Ground.", 3 ~{SHDN} (in) "Shutdown.", 4 BYP "Bypass. If not used, this pin must be left unconnected.", 5 OUT (power) "The output supplies power to the load. A minimum output capacitor of 1uF is required to prevent oscillations. Larger output capacitors will be required for applications with large transient loads to limit peak voltage (See Datasheet)"

## LT1761IS5-2.5#PBF
designator U?
100 mA, Low Noise, LDO Micropower Regulator, 1.8 to 20 V Vin, 2.5 V Vout, 5-pin SOT23 (S5-5), -40 to 125 degC, Pb-Free; Manufacturer: Linear Technology; PartNumber: LT1761IS5-2.5#PBF; Discrete Pass Element: no; Dropout Voltage(V): 0.3; Iout(mA): 100; Isupply(mA): 0.02; Noise(uV): 20; Number of Outputs: 1; Output Voltage: 2.5 V; PSRR(dB): 65; Vin Min(V): 1.8; DatasheetVersion: Rev. F; PackageVersion: Jun-10; PackageReference: S5-5; PackageDescription: 5-Pin Plastic TSOT-23, Body 1.63 x 2.90 mm, Pitch 0.95 mm; Supplier 1: Farnell; Supplier Part Number 1: 1761236; Supplier 2: Newark; Supplier Part Number 2: 24R8525; RoHS: TRUE; Shutdown Current(uA): 1; Vin Max(V): 20; Mounting Technology: Surface Mount; Code_JEDEC: MO-193; ComponentLink1Description: Manufacturer URL; ComponentLink1URL: http://www.linear.com/; ComponentLink2Description: Datasheet; ComponentLink2URL: http://cds.linear.com/docs/en/datasheet/1761sff.pdf; ComponentLink3Description: Package Specification; ComponentLink3URL: http://cds.linear.com/docs/en/packaging/SOT_5_05-08-1635.pdf
footprint LT-S5-5-TSOT-23_N (SOT23, 5-Leads, Body 2.90x1.63mm, Pitch 0.95mm, IPC Medium Density)
footprint LT-S5-5-TSOT-23_L (SOT23, 5-Leads, Body 2.90x1.63mm, Pitch 0.95mm, IPC High Density)
footprint LT-S5-5-TSOT-23_M (SOT23, 5-Leads, Body 2.90x1.63mm, Pitch 0.95mm, IPC Low Density)
pins: 1 IN (power) "Power is supplied to the device through the IN pin.", 2 GND (power) "Ground.", 3 ~{SHDN} (in) "Shutdown.", 4 BYP "Bypass. If not used, this pin must be left unconnected.", 5 OUT (power) "The output supplies power to the load. A minimum output capacitor of 1uF is required to prevent oscillations. Larger output capacitors will be required for applications with large transient loads to limit peak voltage (See Datasheet)"

## LT1761IS5-2.5#TRMPBF
designator U?
100 mA, Low Noise, LDO Micropower Regulator, 1.8 to 20 V Vin, 2.5 V Vout, 5-pin SOT23 (S5-5), -40 to 125 degC, Pb-Free, Mini Tape and Reel; Manufacturer: Linear Technology; PartNumber: LT1761IS5-2.5#TRMPBF; Discrete Pass Element: no; Dropout Voltage(V): 0.3; Iout(mA): 100; Isupply(mA): 0.02; Noise(uV): 20; Number of Outputs: 1; Output Voltage: 2.5 V; PSRR(dB): 65; Vin Min(V): 1.8; DatasheetVersion: Rev. F; PackageVersion: Jun-10; PackageReference: S5-5; PackageDescription: 5-Pin Plastic TSOT-23, Body 1.63 x 2.90 mm, Pitch 0.95 mm; Supplier 1: Digi-Key; Supplier Part Number 1: LT1761IS5-2.5#TRMPBFTR-ND; Supplier 2: Digi-Key; Supplier Part Number 2: LT1761IS5-2.5#TRMPBFCT-ND; Supplier 3: Digi-Key; Supplier Part Number 3: LT1761IS5-2.5#TRMPBFDKR-ND; Supplier 4: Newark; Supplier Part Number 4: 24R3342; Packing: Mini Tape and Reel; RoHS: TRUE; Shutdown Current(uA): 1; Vin Max(V): 20; Mounting Technology: Surface Mount; Code_JEDEC: MO-193; ComponentLink1Description: Manufacturer URL; ComponentLink1URL: http://www.linear.com/; ComponentLink2Description: Datasheet; ComponentLink2URL: http://cds.linear.com/docs/en/datasheet/1761sff.pdf; ComponentLink3Description: Package Specification; ComponentLink3URL: http://cds.linear.com/docs/en/packaging/SOT_5_05-08-1635.pdf
footprint LT-S5-5-TSOT-23_N (SOT23, 5-Leads, Body 2.90x1.63mm, Pitch 0.95mm, IPC Medium Density)
footprint LT-S5-5-TSOT-23_L (SOT23, 5-Leads, Body 2.90x1.63mm, Pitch 0.95mm, IPC High Density)
footprint LT-S5-5-TSOT-23_M (SOT23, 5-Leads, Body 2.90x1.63mm, Pitch 0.95mm, IPC Low Density)
pins: 1 IN (power) "Power is supplied to the device through the IN pin.", 2 GND (power) "Ground.", 3 ~{SHDN} (in) "Shutdown.", 4 BYP "Bypass. If not used, this pin must be left unconnected.", 5 OUT (power) "The output supplies power to the load. A minimum output capacitor of 1uF is required to prevent oscillations. Larger output capacitors will be required for applications with large transient loads to limit peak voltage (See Datasheet)"

## LT1761IS5-2.5#TRPBF
designator U?
100 mA, Low Noise, LDO Micropower Regulator, 1.8 to 20 V Vin, 2.5 V Vout, 5-pin SOT23 (S5-5), -40 to 125 degC, Pb-Free, Tape and Reel; Manufacturer: Linear Technology; PartNumber: LT1761IS5-2.5#TRPBF; Discrete Pass Element: no; Dropout Voltage(V): 0.3; Iout(mA): 100; Isupply(mA): 0.02; Noise(uV): 20; Number of Outputs: 1; Output Voltage: 2.5 V; PSRR(dB): 65; Vin Min(V): 1.8; DatasheetVersion: Rev. F; PackageVersion: Jun-10; PackageReference: S5-5; PackageDescription: 5-Pin Plastic TSOT-23, Body 1.63 x 2.90 mm, Pitch 0.95 mm; Supplier 1: Digi-Key; Supplier Part Number 1: LT1761IS5-2.5#TRPBF-ND; Supplier 2: Newark; Supplier Part Number 2: 25R2541; Packing: Tape and Reel; RoHS: TRUE; Shutdown Current(uA): 1; Vin Max(V): 20; Mounting Technology: Surface Mount; Code_JEDEC: MO-193; ComponentLink1Description: Manufacturer URL; ComponentLink1URL: http://www.linear.com/; ComponentLink2Description: Datasheet; ComponentLink2URL: http://cds.linear.com/docs/en/datasheet/1761sff.pdf; ComponentLink3Description: Package Specification; ComponentLink3URL: http://cds.linear.com/docs/en/packaging/SOT_5_05-08-1635.pdf
footprint LT-S5-5-TSOT-23_N (SOT23, 5-Leads, Body 2.90x1.63mm, Pitch 0.95mm, IPC Medium Density)
footprint LT-S5-5-TSOT-23_L (SOT23, 5-Leads, Body 2.90x1.63mm, Pitch 0.95mm, IPC High Density)
footprint LT-S5-5-TSOT-23_M (SOT23, 5-Leads, Body 2.90x1.63mm, Pitch 0.95mm, IPC Low Density)
pins: 1 IN (power) "Power is supplied to the device through the IN pin.", 2 GND (power) "Ground.", 3 ~{SHDN} (in) "Shutdown.", 4 BYP "Bypass. If not used, this pin must be left unconnected.", 5 OUT (power) "The output supplies power to the load. A minimum output capacitor of 1uF is required to prevent oscillations. Larger output capacitors will be required for applications with large transient loads to limit peak voltage (See Datasheet)"